# EAGLE library part DIR9001 (library DMF-TI_DIR9001)
DIR9001
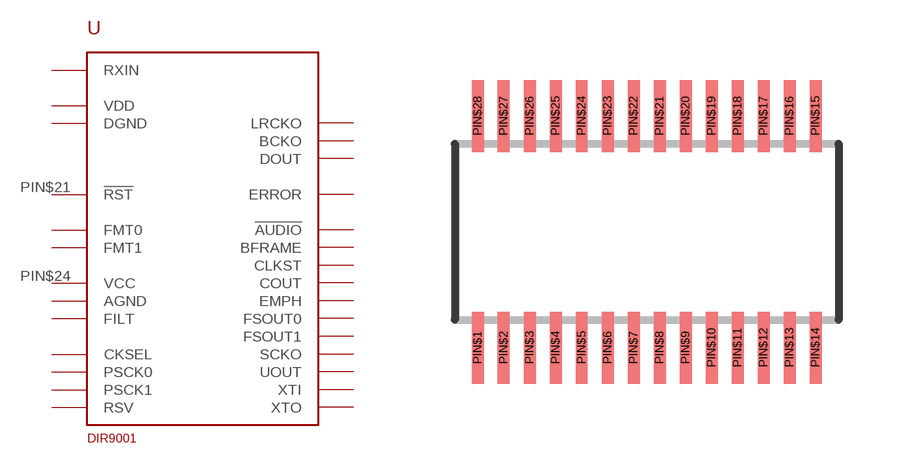
[diagram p0: symbol with the pads of TI_DIR9001; footprint TI_DIR9001]

Designator prefix U

## DIR9001  [TI_DIR9001]
PIN$1  !AUDIO
PIN$2  FSOUT0
PIN$3  FSOUT1
PIN$4  SCKO
PIN$5  VDD
PIN$6  DGND
PIN$7  XTO
PIN$8  XTI
PIN$9  CLKST
PIN$10  LRCKO
PIN$11  BCKO
PIN$12  DOUT
PIN$13  PSCK0
PIN$14  PSCK1
PIN$15  COUT
PIN$16  UOUT
PIN$17  EMPH
PIN$18  BFRAME
PIN$19  RSV
PIN$20  RXIN
PIN$21  !RST
PIN$22  FILT
PIN$23  AGND
PIN$24  VCC
PIN$25  FMT0
PIN$26  FMT1
PIN$27  ERROR
PIN$28  CKSEL

## Footprint TI_DIR9001 (pad centres in mm)
DIR9001
smd 0.3 x 1.8: PIN$1 -4.225,-2.9; PIN$2 -3.575,-2.9; PIN$3 -2.925,-2.9; PIN$4 -2.275,-2.9; PIN$5 -1.625,-2.9; PIN$6 -0.975,-2.9; PIN$7 -0.325,-2.9; PIN$8 0.325,-2.9; PIN$9 0.975,-2.9; PIN$10 1.625,-2.9; PIN$11 2.275,-2.9; PIN$12 2.925,-2.9; PIN$13 3.575,-2.9; PIN$14 4.225,-2.9; PIN$15 4.225,2.9; PIN$16 3.575,2.9; PIN$17 2.925,2.9; PIN$18 2.275,2.9; PIN$19 1.625,2.9; PIN$20 0.975,2.9; PIN$21 0.325,2.9; PIN$22 -0.325,2.9; PIN$23 -0.975,2.9; PIN$24 -1.625,2.9; PIN$25 -2.275,2.9; PIN$26 -2.925,2.9; PIN$27 -3.575,2.9; PIN$28 -4.225,2.9